# Altium integrated library Capacitor - Aluminium TH.IntLib: 4591 symbols (part 12 of 68)
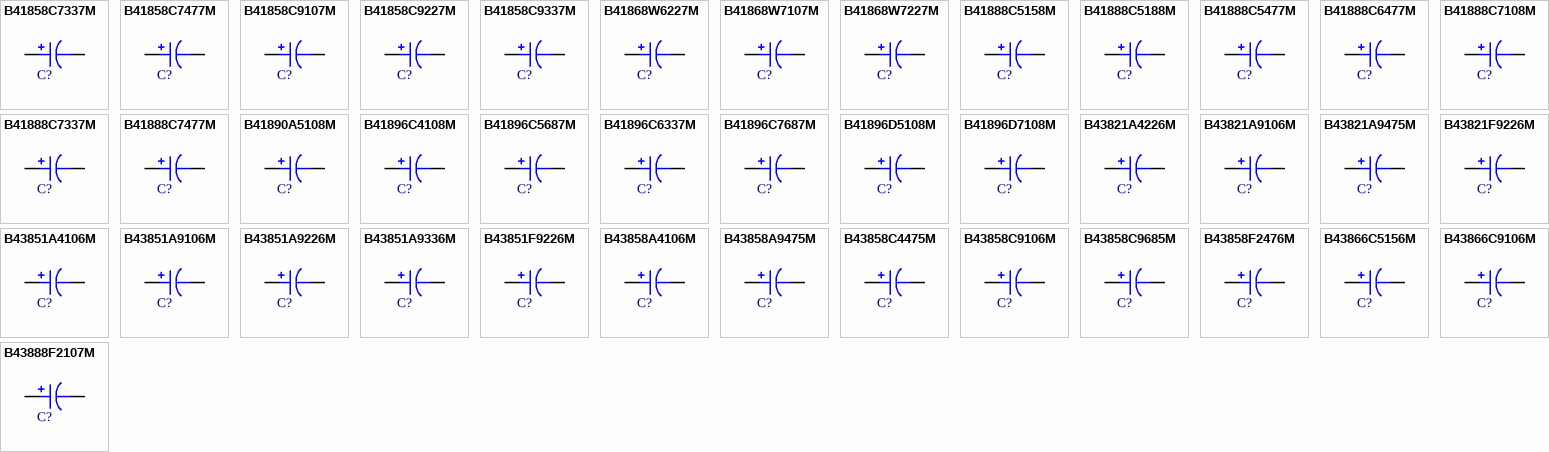
[diagram p125: symbols B41858C7337M to B43888F2107M]

## B43858C9106M
designator C?, comment 10uF  (value not drawn)
CAP ALUM 10UF 20% 400V RADIAL; Part Number: B43858C9106M; Manufacturer: EPCOS (TDK); TemperatureRange: -25C ~ 105C; Type: Polar; Ripple Current: 300mA @ 100kHz; Value: 10uF; PartId: 25988; Supplier 1: Digi-Key; Supplier Part Number 1: 495-6033-ND; ComponentLink1Description: Datasheet; ComponentLink1URL: //media.digikey.com/pdf/Data%20Sheets/Epcos%20PDFs/B43858_Nov08.pdf; ComponentLink2Description: Digi-Key Listing; ComponentLink2URL: https://www.digikey.com/product-detail/en/epcos-tdk/B43858C9106M/495-6033-ND/3544046; Tolerance: 20%; Voltage: 400V; Price: 1; Device Package: Radial, Can, 10mm
footprint CAP AL TH D10 L5 H22
pins: 1, 2

## B43858C9685M
designator C?, comment 6.8uF  (value not drawn)
CAP ALUM 6.8UF 20% 400V RADIAL; Part Number: B43858C9685M; Manufacturer: EPCOS (TDK); TemperatureRange: -25C ~ 105C; Type: Polar; Ripple Current: 270mA @ 100kHz; Value: 6.8uF; PartId: 25409; Supplier 1: Digi-Key; Supplier Part Number 1: 495-6016-ND; ComponentLink1Description: Datasheet; ComponentLink1URL: //media.digikey.com/pdf/Data%20Sheets/Epcos%20PDFs/B43858_Nov08.pdf; ComponentLink2Description: Digi-Key Listing; ComponentLink2URL: https://www.digikey.com/product-detail/en/epcos-tdk/B43858C9685M/495-6016-ND/3543752; Tolerance: 20%; Voltage: 400V; Price: 0.83; Device Package: Radial, Can, 10mm
footprint CAP AL TH D10 L5 H17.5
pins: 1, 2

## B43858F2476M
designator C?, comment 47uF  (value not drawn)
CAP ALUM 47UF 20% 250V RADIAL; Part Number: B43858F2476M; Manufacturer: EPCOS (TDK); TemperatureRange: -40C ~ 105C; Type: Polar; Ripple Current: 840mA @ 100kHz; Value: 47uF; PartId: 26943; Supplier 1: Digi-Key; Supplier Part Number 1: 495-6071-ND; ComponentLink1Description: Datasheet; ComponentLink1URL: //media.digikey.com/pdf/Data%20Sheets/Epcos%20PDFs/B43858_Oct_2002.pdf; ComponentLink2Description: Digi-Key Listing; ComponentLink2URL: https://www.digikey.com/product-detail/en/epcos-tdk/B43858F2476M/495-6071-ND/3544507; Tolerance: 20%; Voltage: 250V; Price: 1.93; Device Package: Radial, Can, 16mm
footprint CAP AL TH D16 L7.5 H27
pins: 1, 2

## B43866C5156M
designator C?, comment 15uF  (value not drawn)
CAP ALUM 15UF 20% 450V RADIAL; Part Number: B43866C5156M; Manufacturer: EPCOS (TDK); TemperatureRange: -25C ~ 125C; Type: Polar; Ripple Current: 250mA @ 100kHz; Value: 15uF; PartId: 24141; Supplier 1: Digi-Key; Supplier Part Number 1: 495-6072-ND; ComponentLink1Description: Datasheet; ComponentLink1URL: //media.digikey.com/pdf/Data%20Sheets/Epcos%20PDFs/B43866_Series_2010.pdf; ComponentLink2Description: Digi-Key Listing; ComponentLink2URL: https://www.digikey.com/product-detail/en/epcos-tdk/B43866C5156M/495-6072-ND/3500152; Tolerance: 20%; Voltage: 450V; Price: 1.48; Device Package: Radial, Can, 12.5mm
footprint CAP AL TH D12.5 L5 H27
pins: 1, 2

## B43866C9106M
designator C?, comment 10uF  (value not drawn)
CAP ALUM 10UF 20% 400V RADIAL; Part Number: B43866C9106M; Manufacturer: EPCOS (TDK); TemperatureRange: -25C ~ 125C; Type: Polar; Ripple Current: 160mA @ 100kHz; Value: 10uF; PartId: 25987; Supplier 1: Digi-Key; Supplier Part Number 1: 495-6034-ND; ComponentLink1Description: Datasheet; ComponentLink1URL: //media.digikey.com/pdf/Data%20Sheets/Epcos%20PDFs/B43866_Series_2010.pdf; ComponentLink2Description: Digi-Key Listing; ComponentLink2URL: https://www.digikey.com/product-detail/en/epcos-tdk/B43866C9106M/495-6034-ND/3500158; Tolerance: 20%; Voltage: 400V; Price: 0.99; Device Package: Radial, Can, 10mm
footprint CAP AL TH D10 L5 H22
pins: 1, 2

## B43888F2107M
designator C?, comment 100uF  (value not drawn)
CAP ALUM 100UF 20% 250V RADIAL; Part Number: B43888F2107M; Manufacturer: EPCOS (TDK); Type: Polar; Ripple Current: 1.18A @ 100kHz; Value: 100uF; PartId: 27273; Supplier 1: Digi-Key; Supplier Part Number 1: 495-6080-ND; ComponentLink1Description: Datasheet; ComponentLink1URL: //media.digikey.com/pdf/Data%20Sheets/Epcos%20PDFs/B43888_Series.pdf; ComponentLink2Description: Digi-Key Listing; ComponentLink2URL: https://www.digikey.com/product-detail/en/epcos-tdk/B43888F2107M/495-6080-ND/3544680; Tolerance: 20%; Voltage: 250V; Price: 3.05; Device Package: Radial, Can, 16mm
footprint CAP AL TH D16 L7.5 H33.5
pins: 1, 2

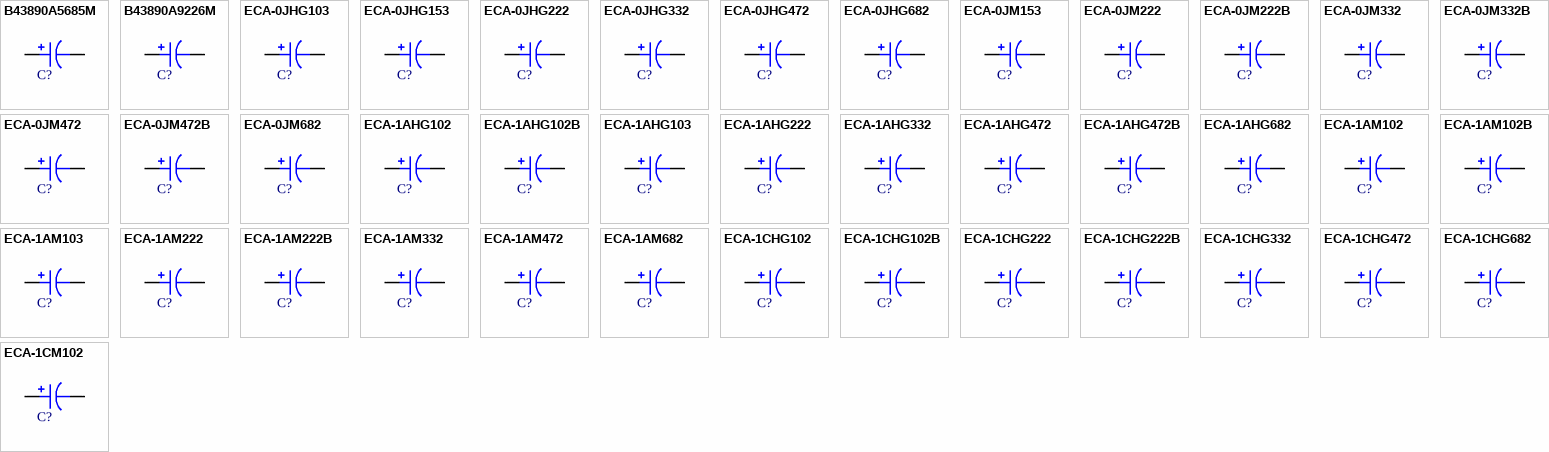
[diagram p19: symbols B43890A5685M to ECA-1CM102]

## B43890A5685M
designator C?, comment 6.8uF  (value not drawn)
CAP ALUM 6.8UF 20% 450V RADIAL; Part Number: B43890A5685M; Manufacturer: EPCOS (TDK); TemperatureRange: -25C ~ 105C; Type: Polar; Ripple Current: 262mA @ 100kHz; Value: 6.8uF; PartId: 25967; Supplier 1: Digi-Key; Supplier Part Number 1: 495-6035-ND; ComponentLink1Description: Datasheet; ComponentLink1URL: https://en.tdk.eu/inf/20/30/db/aec/B43890.pdf; ComponentLink2Description: Digi-Key Listing; ComponentLink2URL: https://www.digikey.com/product-detail/en/epcos-tdk/B43890A5685M/495-6035-ND/3500178; Tolerance: 20%; Voltage: 450V; Price: 0.85; Device Package: Radial, Can, 10mm
footprint CAP AL TH D10 L5 H22
pins: 1, 2

## B43890A9226M
designator C?, comment 22uF  (value not drawn)
CAP ALUM 22UF 20% 400V RADIAL; Part Number: B43890A9226M; Manufacturer: EPCOS (TDK); TemperatureRange: -25C ~ 105C; Type: Polar; Ripple Current: 590mA @ 100kHz; Value: 22uF; PartId: 24084; Supplier 1: Digi-Key; Supplier Part Number 1: 495-6073-ND; ComponentLink1Description: Datasheet; ComponentLink1URL: https://en.tdk.eu/inf/20/30/db/aec/B43890.pdf; ComponentLink2Description: Digi-Key Listing; ComponentLink2URL: https://www.digikey.com/product-detail/en/epcos-tdk/B43890A9226M/495-6073-ND/3500182; Tolerance: 20%; Voltage: 400V; Price: 1.23; Device Package: Radial, Can, 12.5mm
footprint CAP AL TH D12.5 L5 H27
pins: 1, 2

## ECA-0JHG103
designator C?, comment 10000uF  (value not drawn)
CAP ALUM 10000UF 20% 6.3V RADIAL; Part Number: ECA-0JHG103; Manufacturer: Panasonic Electronic Components; TemperatureRange: -55C ~ 105C; Type: Polar; Ripple Current: 1.65A @ 120Hz; Value: 10000uF; PartId: 26881; Supplier 1: Digi-Key; Supplier Part Number 1: P5514-ND; ComponentLink1Description: Datasheet; ComponentLink1URL: https://industrial.panasonic.com/cdbs/www-data/pdf/RDF0000/ABA0000C1038.pdf; ComponentLink2Description: Digi-Key Listing; ComponentLink2URL: https://www.digikey.com/product-detail/en/panasonic-electronic-components/ECA-0JHG103/P5514-ND/245113; Tolerance: 20%; Voltage: 6.3V; Price: 1.31; Device Package: Radial, Can, 16mm
footprint CAP AL TH D16 L7.5 H27
pins: 1, 2

## ECA-0JHG153
designator C?, comment 15000uF  (value not drawn)
CAP ALUM 15000UF 20% 6.3V RADIAL; Part Number: ECA-0JHG153; Manufacturer: Panasonic Electronic Components; TemperatureRange: -55C ~ 105C; Type: Polar; Ripple Current: 2.01A @ 120Hz; Value: 15000uF; PartId: 27113; Supplier 1: Digi-Key; Supplier Part Number 1: P5515-ND; ComponentLink1Description: Datasheet; ComponentLink1URL: https://industrial.panasonic.com/cdbs/www-data/pdf/RDF0000/ABA0000C1038.pdf; ComponentLink2Description: Digi-Key Listing; ComponentLink2URL: https://www.digikey.com/product-detail/en/panasonic-electronic-components/ECA-0JHG153/P5515-ND/245114; Tolerance: 20%; Voltage: 6.3V; Price: 1.75; Device Package: Radial, Can, 16mm
footprint CAP AL TH D16 L7.5 H33.5
pins: 1, 2

## ECA-0JHG222
designator C?, comment 2200uF  (value not drawn)
CAP ALUM 2200UF 20% 6.3V RADIAL; Part Number: ECA-0JHG222; Manufacturer: Panasonic Electronic Components; TemperatureRange: -55C ~ 105C; Type: Polar; Ripple Current: 710mA @ 120Hz; Value: 2200uF; PartId: 25259; Supplier 1: Digi-Key; Supplier Part Number 1: P5510-ND; ComponentLink1Description: Datasheet; ComponentLink1URL: https://industrial.panasonic.com/cdbs/www-data/pdf/RDF0000/ABA0000C1038.pdf; ComponentLink2Description: Digi-Key Listing; ComponentLink2URL: https://www.digikey.com/product-detail/en/panasonic-electronic-components/ECA-0JHG222/P5510-ND/245109; Tolerance: 20%; Voltage: 6.3V; Price: 0.59; Device Package: Radial, Can, 10mm
footprint CAP AL TH D10 L5 H17.5
pins: 1, 2

## ECA-0JHG332
designator C?, comment 3300uF  (value not drawn)
CAP ALUM 3300UF 20% 6.3V RADIAL; Part Number: ECA-0JHG332; Manufacturer: Panasonic Electronic Components; TemperatureRange: -55C ~ 105C; Type: Polar; Ripple Current: 840mA @ 120Hz; Value: 3300uF; PartId: 25875; Supplier 1: Digi-Key; Supplier Part Number 1: P5511-ND; ComponentLink1Description: Datasheet; ComponentLink1URL: https://industrial.panasonic.com/cdbs/www-data/pdf/RDF0000/ABA0000C1038.pdf; ComponentLink2Description: Digi-Key Listing; ComponentLink2URL: https://www.digikey.com/product-detail/en/panasonic-electronic-components/ECA-0JHG332/P5511-ND/245110; Tolerance: 20%; Voltage: 6.3V; Price: 0.64; Device Package: Radial, Can, 10mm
footprint CAP AL TH D10 L5 H22
pins: 1, 2

## ECA-0JHG472
designator C?, comment 4700uF  (value not drawn)
CAP ALUM 4700UF 20% 6.3V RADIAL; Part Number: ECA-0JHG472; Manufacturer: Panasonic Electronic Components; TemperatureRange: -55C ~ 105C; Type: Polar; Ripple Current: 1.09A @ 120Hz; Value: 4700uF; PartId: 23293; Supplier 1: Digi-Key; Supplier Part Number 1: P5512-ND; ComponentLink1Description: Datasheet; ComponentLink1URL: https://industrial.panasonic.com/cdbs/www-data/pdf/RDF0000/ABA0000C1038.pdf; ComponentLink2Description: Digi-Key Listing; ComponentLink2URL: https://www.digikey.com/product-detail/en/panasonic-electronic-components/ECA-0JHG472/P5512-ND/245111; Tolerance: 20%; Voltage: 6.3V; Price: 0.8; Device Package: Radial, Can, 12.5mm
footprint CAP AL TH D12.5 L5 H22
pins: 1, 2

## ECA-0JHG682
designator C?, comment 6800uF  (value not drawn)
CAP ALUM 6800UF 20% 6.3V RADIAL; Part Number: ECA-0JHG682; Manufacturer: Panasonic Electronic Components; TemperatureRange: -55C ~ 105C; Type: Polar; Ripple Current: 1.35A @ 120Hz; Value: 6800uF; PartId: 23972; Supplier 1: Digi-Key; Supplier Part Number 1: P5513-ND; ComponentLink1Description: Datasheet; ComponentLink1URL: https://industrial.panasonic.com/cdbs/www-data/pdf/RDF0000/ABA0000C1038.pdf; ComponentLink2Description: Digi-Key Listing; ComponentLink2URL: https://www.digikey.com/product-detail/en/panasonic-electronic-components/ECA-0JHG682/P5513-ND/245112; Tolerance: 20%; Voltage: 6.3V; Price: 1.01; Device Package: Radial, Can, 12.5mm
footprint CAP AL TH D12.5 L5 H27
pins: 1, 2

## ECA-0JM153
designator C?, comment 15000uF  (value not drawn)
CAP ALUM 15000UF 20% 6.3V RADIAL; Part Number: ECA-0JM153; Manufacturer: Panasonic Electronic Components; TemperatureRange: -40C ~ 85C; Type: Polar; Ripple Current: 1.7A @ 120Hz; Value: 15000uF; PartId: 26996; Supplier 1: Digi-Key; Supplier Part Number 1: P5121-ND; ComponentLink1Description: Datasheet; ComponentLink1URL: https://industrial.panasonic.com/cdbs/www-data/pdf/RDF0000/ABA0000C81.pdf; ComponentLink2Description: Digi-Key Listing; ComponentLink2URL: https://www.digikey.com/product-detail/en/panasonic-electronic-components/ECA-0JM153/P5121-ND/244980; Tolerance: 20%; Voltage: 6.3V; Price: 1.31; Device Package: Radial, Can, 16mm
footprint CAP AL TH D16 L7.5 H33.5
pins: 1, 2

## ECA-0JM222
designator C?, comment 2200uF  (value not drawn)
CAP ALUM 2200UF 20% 6.3V RADIAL; Part Number: ECA-0JM222; Manufacturer: Panasonic Electronic Components; TemperatureRange: -40C ~ 85C; Type: Polar; Ripple Current: 890mA @ 120Hz; Value: 2200uF; PartId: 25193; Supplier 1: Digi-Key; Supplier Part Number 1: P5116-ND; ComponentLink1Description: Datasheet; ComponentLink1URL: https://industrial.panasonic.com/cdbs/www-data/pdf/RDF0000/ABA0000C81.pdf; ComponentLink2Description: Digi-Key Listing; ComponentLink2URL: https://www.digikey.com/product-detail/en/panasonic-electronic-components/ECA-0JM222/P5116-ND/244975; Tolerance: 20%; Voltage: 6.3V; Price: 0.49; Device Package: Radial, Can, 10mm
footprint CAP AL TH D10 L5 H17.5
pins: 1, 2

## ECA-0JM222B
designator C?, comment 2200uF  (value not drawn)
CAP ALUM 2200UF 20% 6.3V RADIAL; Part Number: ECA-0JM222B; Manufacturer: Panasonic Electronic Components; TemperatureRange: -40C ~ 85C; Type: Polar; Ripple Current: 890mA @ 120Hz; Value: 2200uF; PartId: 24999; Supplier 1: Digi-Key; Supplier Part Number 1: P10360TB-ND; ComponentLink1Description: Datasheet; ComponentLink1URL: https://industrial.panasonic.com/cdbs/www-data/pdf/RDF0000/ABA0000C81.pdf; ComponentLink2Description: Digi-Key Listing; ComponentLink2URL: https://www.digikey.com/product-detail/en/panasonic-electronic-components/ECA-0JM222B/P10360TB-ND/268445; Tolerance: 20%; Voltage: 6.3V; Price: 0.1468; Device Package: Radial, Can, 10mm
footprint CAP AL TH D10 L5 H17.5
pins: 1, 2

## ECA-0JM332
designator C?, comment 3300uF  (value not drawn)
CAP ALUM 3300UF 20% 6.3V RADIAL; Part Number: ECA-0JM332; Manufacturer: Panasonic Electronic Components; TemperatureRange: -40C ~ 85C; Type: Polar; Ripple Current: 1.02A @ 120Hz; Value: 3300uF; PartId: 25852; Supplier 1: Digi-Key; Supplier Part Number 1: P5117-ND; ComponentLink1Description: Datasheet; ComponentLink1URL: https://industrial.panasonic.com/cdbs/www-data/pdf/RDF0000/ABA0000C81.pdf; ComponentLink2Description: Digi-Key Listing; ComponentLink2URL: https://www.digikey.com/product-detail/en/panasonic-electronic-components/ECA-0JM332/P5117-ND/244976; Tolerance: 20%; Voltage: 6.3V; Price: 0.55; Device Package: Radial, Can, 10mm
footprint CAP AL TH D10 L5 H22
pins: 1, 2

## ECA-0JM332B
designator C?, comment 3300uF  (value not drawn)
CAP ALUM 3300UF 20% 6.3V RADIAL; Part Number: ECA-0JM332B; Manufacturer: Panasonic Electronic Components; TemperatureRange: -40C ~ 85C; Type: Polar; Ripple Current: 1.02A @ 120Hz; Value: 3300uF; PartId: 25750; Supplier 1: Digi-Key; Supplier Part Number 1: P10361TB-ND; ComponentLink1Description: Datasheet; ComponentLink1URL: https://industrial.panasonic.com/cdbs/www-data/pdf/RDF0000/ABA0000C81.pdf; ComponentLink2Description: Digi-Key Listing; ComponentLink2URL: https://www.digikey.com/product-detail/en/panasonic-electronic-components/ECA-0JM332B/P10361TB-ND/268446; Tolerance: 20%; Voltage: 6.3V; Price: 0.2014; Device Package: Radial, Can, 10mm
footprint CAP AL TH D10 L5 H22
pins: 1, 2

## ECA-0JM472
designator C?, comment 4700uF  (value not drawn)
CAP ALUM 4700UF 20% 6.3V RADIAL; Part Number: ECA-0JM472; Manufacturer: Panasonic Electronic Components; TemperatureRange: -40C ~ 85C; Type: Polar; Ripple Current: 1.17A @ 120Hz; Value: 4700uF; PartId: 23236; Supplier 1: Digi-Key; Supplier Part Number 1: P5118-ND; ComponentLink1Description: Datasheet; ComponentLink1URL: https://industrial.panasonic.com/cdbs/www-data/pdf/RDF0000/ABA0000C81.pdf; ComponentLink2Description: Digi-Key Listing; ComponentLink2URL: https://www.digikey.com/product-detail/en/panasonic-electronic-components/ECA-0JM472/P5118-ND/244977; Tolerance: 20%; Voltage: 6.3V; Price: 0.68; Device Package: Radial, Can, 12.5mm
footprint CAP AL TH D12.5 L5 H22
pins: 1, 2

## ECA-0JM472B
designator C?, comment 4700uF  (value not drawn)
CAP ALUM 4700UF 20% 6.3V RADIAL; Part Number: ECA-0JM472B; Manufacturer: Panasonic Electronic Components; TemperatureRange: -40C ~ 85C; Type: Polar; Ripple Current: 1.17A @ 120Hz; Value: 4700uF; PartId: 23142; Supplier 1: Digi-Key; Supplier Part Number 1: P10362TB-ND; ComponentLink1Description: Datasheet; ComponentLink1URL: https://industrial.panasonic.com/cdbs/www-data/pdf/RDF0000/ABA0000C81.pdf; ComponentLink2Description: Digi-Key Listing; ComponentLink2URL: https://www.digikey.com/product-detail/en/panasonic-electronic-components/ECA-0JM472B/P10362TB-ND/268447; Tolerance: 20%; Voltage: 6.3V; Price: 0.2734; Device Package: Radial, Can, 12.5mm
footprint CAP AL TH D12.5 L5 H22
pins: 1, 2

## ECA-0JM682
designator C?, comment 6800uF  (value not drawn)
CAP ALUM 6800UF 20% 6.3V RADIAL; Part Number: ECA-0JM682; Manufacturer: Panasonic Electronic Components; TemperatureRange: -40C ~ 85C; Type: Polar; Ripple Current: 1.27A @ 120Hz; Value: 6800uF; PartId: 23879; Supplier 1: Digi-Key; Supplier Part Number 1: P5119-ND; ComponentLink1Description: Datasheet; ComponentLink1URL: https://industrial.panasonic.com/cdbs/www-data/pdf/RDF0000/ABA0000C81.pdf; ComponentLink2Description: Digi-Key Listing; ComponentLink2URL: https://www.digikey.com/product-detail/en/panasonic-electronic-components/ECA-0JM682/P5119-ND/244978; Tolerance: 20%; Voltage: 6.3V; Price: 0.83; Device Package: Radial, Can, 12.5mm
footprint CAP AL TH D12.5 L5 H27
pins: 1, 2

## ECA-1AHG102
designator C?, comment 1000uF  (value not drawn)
CAP ALUM 1000UF 20% 10V RADIAL; Part Number: ECA-1AHG102; Manufacturer: Panasonic Electronic Components; TemperatureRange: -55C ~ 105C; Type: Polar; Ripple Current: 460mA @ 120Hz; Value: 1000uF; PartId: 24848; Supplier 1: Digi-Key; Supplier Part Number 1: P5521-ND; ComponentLink1Description: Datasheet; ComponentLink1URL: https://industrial.panasonic.com/cdbs/www-data/pdf/RDF0000/ABA0000C1038.pdf; ComponentLink2Description: Digi-Key Listing; ComponentLink2URL: https://www.digikey.com/product-detail/en/panasonic-electronic-components/ECA-1AHG102/P5521-ND/245120; Tolerance: 20%; Voltage: 10V; Price: 0.47; Device Package: Radial, Can, 10mm
footprint CAP AL TH D10 L5 H14.5
pins: 1, 2

## ECA-1AHG102B
designator C?, comment 1000uF  (value not drawn)
CAP ALUM 1000UF 20% 10V RADIAL; Part Number: ECA-1AHG102B; Manufacturer: Panasonic Electronic Components; TemperatureRange: -55C ~ 105C; Type: Polar; Ripple Current: 460mA @ 120Hz; Value: 1000uF; PartId: 24592; Supplier 1: Digi-Key; Supplier Part Number 1: P19509TB-ND; ComponentLink1Description: Datasheet; ComponentLink1URL: https://industrial.panasonic.com/cdbs/www-data/pdf/RDF0000/ABA0000C1038.pdf; ComponentLink2Description: Digi-Key Listing; ComponentLink2URL: https://www.digikey.com/product-detail/en/panasonic-electronic-components/ECA-1AHG102B/P19509TB-ND/2688625; Tolerance: 20%; Voltage: 10V; Price: 0.1728; Device Package: Radial, Can, 10mm
footprint CAP AL TH D10 L5 H14.5
pins: 1, 2

## ECA-1AHG103
designator C?, comment 10000uF  (value not drawn)
CAP ALUM 10000UF 20% 10V RADIAL; Part Number: ECA-1AHG103; Manufacturer: Panasonic Electronic Components; TemperatureRange: -55C ~ 105C; Type: Polar; Ripple Current: 1.89A @ 120Hz; Value: 10000uF; PartId: 27115; Supplier 1: Digi-Key; Supplier Part Number 1: P5526-ND; ComponentLink1Description: Datasheet; ComponentLink1URL: https://industrial.panasonic.com/cdbs/www-data/pdf/RDF0000/ABA0000C1038.pdf; ComponentLink2Description: Digi-Key Listing; ComponentLink2URL: https://www.digikey.com/product-detail/en/panasonic-electronic-components/ECA-1AHG103/P5526-ND/245125; Tolerance: 20%; Voltage: 10V; Price: 1.75; Device Package: Radial, Can, 16mm
footprint CAP AL TH D16 L7.5 H33.5
pins: 1, 2

## ECA-1AHG222
designator C?, comment 2200uF  (value not drawn)
CAP ALUM 2200UF 20% 10V RADIAL; Part Number: ECA-1AHG222; Manufacturer: Panasonic Electronic Components; TemperatureRange: -55C ~ 105C; Type: Polar; Ripple Current: 760mA @ 120Hz; Value: 2200uF; PartId: 25885; Supplier 1: Digi-Key; Supplier Part Number 1: P5522-ND; ComponentLink1Description: Datasheet; ComponentLink1URL: https://industrial.panasonic.com/cdbs/www-data/pdf/RDF0000/ABA0000C1038.pdf; ComponentLink2Description: Digi-Key Listing; ComponentLink2URL: https://www.digikey.com/product-detail/en/panasonic-electronic-components/ECA-1AHG222/P5522-ND/245121; Tolerance: 20%; Voltage: 10V; Price: 0.65; Device Package: Radial, Can, 10mm
footprint CAP AL TH D10 L5 H22
pins: 1, 2

## ECA-1AHG332
designator C?, comment 3300uF  (value not drawn)
CAP ALUM 3300UF 20% 10V RADIAL; Part Number: ECA-1AHG332; Manufacturer: Panasonic Electronic Components; TemperatureRange: -55C ~ 105C; Type: Polar; Ripple Current: 1A @ 120Hz; Value: 3300uF; PartId: 23330; Supplier 1: Digi-Key; Supplier Part Number 1: P5523-ND; ComponentLink1Description: Datasheet; ComponentLink1URL: https://industrial.panasonic.com/cdbs/www-data/pdf/RDF0000/ABA0000C1038.pdf; ComponentLink2Description: Digi-Key Listing; ComponentLink2URL: https://www.digikey.com/product-detail/en/panasonic-electronic-components/ECA-1AHG332/P5523-ND/245122; Tolerance: 20%; Voltage: 10V; Price: 0.83; Device Package: Radial, Can, 12.5mm
footprint CAP AL TH D12.5 L5 H22
pins: 1, 2

## ECA-1AHG472
designator C?, comment 4700uF  (value not drawn)
CAP ALUM 4700UF 20% 10V RADIAL; Part Number: ECA-1AHG472; Manufacturer: Panasonic Electronic Components; TemperatureRange: -55C ~ 105C; Type: Polar; Ripple Current: 1.26A @ 120Hz; Value: 4700uF; PartId: 23966; Supplier 1: Digi-Key; Supplier Part Number 1: P5524-ND; ComponentLink1Description: Datasheet; ComponentLink1URL: https://industrial.panasonic.com/cdbs/www-data/pdf/RDF0000/ABA0000C1038.pdf; ComponentLink2Description: Digi-Key Listing; ComponentLink2URL: https://www.digikey.com/product-detail/en/panasonic-electronic-components/ECA-1AHG472/P5524-ND/245123; Tolerance: 20%; Voltage: 10V; Price: 1; Device Package: Radial, Can, 12.5mm
footprint CAP AL TH D12.5 L5 H27
pins: 1, 2

## ECA-1AHG472B
designator C?, comment 4700uF  (value not drawn)
CAP ALUM 4700UF 20% 10V RADIAL; Part Number: ECA-1AHG472B; Manufacturer: Panasonic Electronic Components; TemperatureRange: -55C ~ 105C; Type: Polar; Ripple Current: 1.26A @ 120Hz; Value: 4700uF; PartId: 23817; Supplier 1: Digi-Key; Supplier Part Number 1: P19510TB-ND; ComponentLink1Description: Datasheet; ComponentLink1URL: https://industrial.panasonic.com/cdbs/www-data/pdf/RDF0000/ABA0000C1038.pdf; ComponentLink2Description: Digi-Key Listing; ComponentLink2URL: https://www.digikey.com/product-detail/en/panasonic-electronic-components/ECA-1AHG472B/P19510TB-ND/2688635; Tolerance: 20%; Voltage: 10V; Price: 0.4279; Device Package: Radial, Can, 12.5mm
footprint CAP AL TH D12.5 L5 H27
pins: 1, 2

## ECA-1AHG682
designator C?, comment 6800uF  (value not drawn)
CAP ALUM 6800UF 20% 10V RADIAL; Part Number: ECA-1AHG682; Manufacturer: Panasonic Electronic Components; TemperatureRange: -55C ~ 105C; Type: Polar; Ripple Current: 1.57A @ 120Hz; Value: 6800uF; PartId: 26885; Supplier 1: Digi-Key; Supplier Part Number 1: P5525-ND; ComponentLink1Description: Datasheet; ComponentLink1URL: https://industrial.panasonic.com/cdbs/www-data/pdf/RDF0000/ABA0000C1038.pdf; ComponentLink2Description: Digi-Key Listing; ComponentLink2URL: https://www.digikey.com/product-detail/en/panasonic-electronic-components/ECA-1AHG682/P5525-ND/245124; Tolerance: 20%; Voltage: 10V; Price: 1.31; Device Package: Radial, Can, 16mm
footprint CAP AL TH D16 L7.5 H27
pins: 1, 2

## ECA-1AM102
designator C?, comment 1000uF  (value not drawn)
CAP ALUM 1000UF 20% 10V RADIAL; Part Number: ECA-1AM102; Manufacturer: Panasonic Electronic Components; TemperatureRange: -40C ~ 85C; Type: Polar; Ripple Current: 630mA @ 120Hz; Value: 1000uF; PartId: 24701; Supplier 1: Digi-Key; Supplier Part Number 1: P5127-ND; ComponentLink1Description: Datasheet; ComponentLink1URL: http://industrial.panasonic.com/www-cgi/jvcr13pz.cgi?E+PZ+3+ABA0012+ECA1AM102+7+WW; ComponentLink2Description: Digi-Key Listing; ComponentLink2URL: https://www.digikey.com/product-detail/en/panasonic-electronic-components/ECA-1AM102/P5127-ND/244986; Tolerance: 20%; Voltage: 10V; Price: 0.38; Device Package: Radial, Can, 10mm
footprint CAP AL TH D10 L5 H14.5
pins: 1, 2

## ECA-1AM102B
designator C?, comment 1000uF  (value not drawn)
CAP ALUM 1000UF 20% 10V RADIAL; Part Number: ECA-1AM102B; Manufacturer: Panasonic Electronic Components; TemperatureRange: -40C ~ 85C; Type: Polar; Ripple Current: 630mA @ 120Hz; Value: 1000uF; PartId: 24510; Supplier 1: Digi-Key; Supplier Part Number 1: P10367TB-ND; ComponentLink1Description: Datasheet; ComponentLink1URL: http://industrial.panasonic.com/www-cgi/jvcr13pz.cgi?E+PZ+3+ABA0012+ECA1AM102B+7+WW; ComponentLink2Description: Digi-Key Listing; ComponentLink2URL: https://www.digikey.com/product-detail/en/panasonic-electronic-components/ECA-1AM102B/P10367TB-ND/268452; Tolerance: 20%; Voltage: 10V; Price: 0.1262; Device Package: Radial, Can, 10mm
footprint CAP AL TH D10 L5 H14.5
pins: 1, 2

## ECA-1AM103
designator C?, comment 10000uF  (value not drawn)
CAP ALUM 10000UF 20% 10V RADIAL; Part Number: ECA-1AM103; Manufacturer: Panasonic Electronic Components; TemperatureRange: -40C ~ 85C; Type: Polar; Ripple Current: 1.6A @ 120Hz; Value: 10000uF; PartId: 26997; Supplier 1: Digi-Key; Supplier Part Number 1: P5132-ND; ComponentLink1Description: Datasheet; ComponentLink1URL: http://industrial.panasonic.com/www-cgi/jvcr13pz.cgi?E+PZ+3+ABA0012+ECA1AM103+7+WW; ComponentLink2Description: Digi-Key Listing; ComponentLink2URL: https://www.digikey.com/product-detail/en/panasonic-electronic-components/ECA-1AM103/P5132-ND/244991; Tolerance: 20%; Voltage: 10V; Price: 1.31; Device Package: Radial, Can, 16mm
footprint CAP AL TH D16 L7.5 H33.5
pins: 1, 2

## ECA-1AM222
designator C?, comment 2200uF  (value not drawn)
CAP ALUM 2200UF 20% 10V RADIAL; Part Number: ECA-1AM222; Manufacturer: Panasonic Electronic Components; TemperatureRange: -40C ~ 85C; Type: Polar; Ripple Current: 920mA @ 120Hz; Value: 2200uF; PartId: 25848; Supplier 1: Digi-Key; Supplier Part Number 1: P5128-ND; ComponentLink1Description: Datasheet; ComponentLink1URL: http://industrial.panasonic.com/www-cgi/jvcr13pz.cgi?E+PZ+3+ABA0012+ECA1AM222+7+WW; ComponentLink2Description: Digi-Key Listing; ComponentLink2URL: https://www.digikey.com/product-detail/en/panasonic-electronic-components/ECA-1AM222/P5128-ND/244987; Tolerance: 20%; Voltage: 10V; Price: 0.54; Device Package: Radial, Can, 10mm
footprint CAP AL TH D10 L5 H22
pins: 1, 2

## ECA-1AM222B
designator C?, comment 2200uF  (value not drawn)
CAP ALUM 2200UF 20% 10V RADIAL; Part Number: ECA-1AM222B; Manufacturer: Panasonic Electronic Components; TemperatureRange: -40C ~ 85C; Type: Polar; Ripple Current: 920mA @ 120Hz; Value: 2200uF; PartId: 25751; Supplier 1: Digi-Key; Supplier Part Number 1: P10368TB-ND; ComponentLink1Description: Datasheet; ComponentLink1URL: http://industrial.panasonic.com/www-cgi/jvcr13pz.cgi?E+PZ+3+ABA0012+ECA1AM222B+7+WW; ComponentLink2Description: Digi-Key Listing; ComponentLink2URL: https://www.digikey.com/product-detail/en/panasonic-electronic-components/ECA-1AM222B/P10368TB-ND/268453; Tolerance: 20%; Voltage: 10V; Price: 0.2014; Device Package: Radial, Can, 10mm
footprint CAP AL TH D10 L5 H22
pins: 1, 2

## ECA-1AM332
designator C?, comment 3300uF  (value not drawn)
CAP ALUM 3300UF 20% 10V RADIAL; Part Number: ECA-1AM332; Manufacturer: Panasonic Electronic Components; TemperatureRange: -40C ~ 85C; Type: Polar; Ripple Current: 1.09A @ 120Hz; Value: 3300uF; PartId: 23237; Supplier 1: Digi-Key; Supplier Part Number 1: P5129-ND; ComponentLink1Description: Datasheet; ComponentLink1URL: http://industrial.panasonic.com/www-cgi/jvcr13pz.cgi?E+PZ+3+ABA0012+ECA1AM332+7+WW; ComponentLink2Description: Digi-Key Listing; ComponentLink2URL: https://www.digikey.com/product-detail/en/panasonic-electronic-components/ECA-1AM332/P5129-ND/244988; Tolerance: 20%; Voltage: 10V; Price: 0.68; Device Package: Radial, Can, 12.5mm
footprint CAP AL TH D12.5 L5 H22
pins: 1, 2

## ECA-1AM472
designator C?, comment 4700uF  (value not drawn)
CAP ALUM 4700UF 20% 10V RADIAL; Part Number: ECA-1AM472; Manufacturer: Panasonic Electronic Components; TemperatureRange: -40C ~ 85C; Type: Polar; Ripple Current: 1.2A @ 120Hz; Value: 4700uF; PartId: 23886; Supplier 1: Digi-Key; Supplier Part Number 1: P5130-ND; ComponentLink1Description: Datasheet; ComponentLink1URL: http://industrial.panasonic.com/www-cgi/jvcr13pz.cgi?E+PZ+3+ABA0012+ECA1AM472+7+WW; ComponentLink2Description: Digi-Key Listing; ComponentLink2URL: https://www.digikey.com/product-detail/en/panasonic-electronic-components/ECA-1AM472/P5130-ND/244989; Tolerance: 20%; Voltage: 10V; Price: 0.85; Device Package: Radial, Can, 12.5mm
footprint CAP AL TH D12.5 L5 H27
pins: 1, 2

## ECA-1AM682
designator C?, comment 6800uF  (value not drawn)
CAP ALUM 6800UF 20% 10V RADIAL; Part Number: ECA-1AM682; Manufacturer: Panasonic Electronic Components; TemperatureRange: -40C ~ 85C; Type: Polar; Ripple Current: 1.4A @ 120Hz; Value: 6800uF; PartId: 26850; Supplier 1: Digi-Key; Supplier Part Number 1: P5131-ND; ComponentLink1Description: Datasheet; ComponentLink1URL: http://industrial.panasonic.com/www-cgi/jvcr13pz.cgi?E+PZ+3+ABA0012+ECA1AM682+7+WW; ComponentLink2Description: Digi-Key Listing; ComponentLink2URL: https://www.digikey.com/product-detail/en/panasonic-electronic-components/ECA-1AM682/P5131-ND/244990; Tolerance: 20%; Voltage: 10V; Price: 1.05; Device Package: Radial, Can, 16mm
footprint CAP AL TH D16 L7.5 H27
pins: 1, 2

## ECA-1CHG102
designator C?, comment 1000uF  (value not drawn)
CAP ALUM 1000UF 20% 16V RADIAL; Part Number: ECA-1CHG102; Manufacturer: Panasonic Electronic Components; TemperatureRange: -55C ~ 105C; Type: Polar; Ripple Current: 560mA @ 120Hz; Value: 1000uF; PartId: 25256; Supplier 1: Digi-Key; Supplier Part Number 1: P5533-ND; ComponentLink1Description: Datasheet; ComponentLink1URL: https://industrial.panasonic.com/cdbs/www-data/pdf/RDF0000/ABA0000C1038.pdf; ComponentLink2Description: Digi-Key Listing; ComponentLink2URL: https://www.digikey.com/product-detail/en/panasonic-electronic-components/ECA-1CHG102/P5533-ND/245132; Tolerance: 20%; Voltage: 16V; Price: 0.59; Device Package: Radial, Can, 10mm
footprint CAP AL TH D10 L5 H17.5
pins: 1, 2

## ECA-1CHG102B
designator C?, comment 1000uF  (value not drawn)
CAP ALUM 1000UF 20% 16V RADIAL; Part Number: ECA-1CHG102B; Manufacturer: Panasonic Electronic Components; TemperatureRange: -55C ~ 105C; Type: Polar; Ripple Current: 560mA @ 120Hz; Value: 1000uF; PartId: 25059; Supplier 1: Digi-Key; Supplier Part Number 1: P19511TB-ND; ComponentLink1Description: Datasheet; ComponentLink1URL: https://industrial.panasonic.com/cdbs/www-data/pdf/RDF0000/ABA0000C1038.pdf; ComponentLink2Description: Digi-Key Listing; ComponentLink2URL: https://www.digikey.com/product-detail/en/panasonic-electronic-components/ECA-1CHG102B/P19511TB-ND/1629498; Tolerance: 20%; Voltage: 16V; Price: 0.2186; Device Package: Radial, Can, 10mm
footprint CAP AL TH D10 L5 H17.5
pins: 1, 2

## ECA-1CHG222
designator C?, comment 2200uF  (value not drawn)
CAP ALUM 2200UF 20% 16V RADIAL; Part Number: ECA-1CHG222; Manufacturer: Panasonic Electronic Components; TemperatureRange: -55C ~ 105C; Type: Polar; Ripple Current: 920mA @ 120Hz; Value: 2200uF; PartId: 23329; Supplier 1: Digi-Key; Supplier Part Number 1: P5534-ND; ComponentLink1Description: Datasheet; ComponentLink1URL: https://industrial.panasonic.com/cdbs/www-data/pdf/RDF0000/ABA0000C1038.pdf; ComponentLink2Description: Digi-Key Listing; ComponentLink2URL: https://www.digikey.com/product-detail/en/panasonic-electronic-components/ECA-1CHG222/P5534-ND/245133; Tolerance: 20%; Voltage: 16V; Price: 0.83; Device Package: Radial, Can, 12.5mm
footprint CAP AL TH D12.5 L5 H22
pins: 1, 2

## ECA-1CHG222B
designator C?, comment 2200uF  (value not drawn)
CAP ALUM 2200UF 20% 16V RADIAL; Part Number: ECA-1CHG222B; Manufacturer: Panasonic Electronic Components; TemperatureRange: -55C ~ 105C; Type: Polar; Ripple Current: 920mA @ 120Hz; Value: 2200uF; PartId: 23164; Supplier 1: Digi-Key; Supplier Part Number 1: P19512TB-ND; ComponentLink1Description: Datasheet; ComponentLink1URL: https://industrial.panasonic.com/cdbs/www-data/pdf/RDF0000/ABA0000C1038.pdf; ComponentLink2Description: Digi-Key Listing; ComponentLink2URL: https://www.digikey.com/product-detail/en/panasonic-electronic-components/ECA-1CHG222B/P19512TB-ND/2688645; Tolerance: 20%; Voltage: 16V; Price: 0.3366; Device Package: Radial, Can, 12.5mm
footprint CAP AL TH D12.5 L5 H22
pins: 1, 2

## ECA-1CHG332
designator C?, comment 3300uF  (value not drawn)
CAP ALUM 3300UF 20% 16V RADIAL; Part Number: ECA-1CHG332; Manufacturer: Panasonic Electronic Components; TemperatureRange: -55C ~ 105C; Type: Polar; Ripple Current: 1.17A @ 120Hz; Value: 3300uF; PartId: 23933; Supplier 1: Digi-Key; Supplier Part Number 1: P5535-ND; ComponentLink1Description: Datasheet; ComponentLink1URL: https://industrial.panasonic.com/cdbs/www-data/pdf/RDF0000/ABA0000C1038.pdf; ComponentLink2Description: Digi-Key Listing; ComponentLink2URL: https://www.digikey.com/product-detail/en/panasonic-electronic-components/ECA-1CHG332/P5535-ND/245134; Tolerance: 20%; Voltage: 16V; Price: 0.97; Device Package: Radial, Can, 12.5mm
footprint CAP AL TH D12.5 L5 H27
pins: 1, 2

## ECA-1CHG472
designator C?, comment 4700uF  (value not drawn)
CAP ALUM 4700UF 20% 16V RADIAL; Part Number: ECA-1CHG472; Manufacturer: Panasonic Electronic Components; TemperatureRange: -55C ~ 105C; Type: Polar; Ripple Current: 1.48A @ 120Hz; Value: 4700uF; PartId: 26858; Supplier 1: Digi-Key; Supplier Part Number 1: P5536-ND; ComponentLink1Description: Datasheet; ComponentLink1URL: https://industrial.panasonic.com/cdbs/www-data/pdf/RDF0000/ABA0000C1038.pdf; ComponentLink2Description: Digi-Key Listing; ComponentLink2URL: https://www.digikey.com/product-detail/en/panasonic-electronic-components/ECA-1CHG472/P5536-ND/245135; Tolerance: 20%; Voltage: 16V; Price: 1.22; Device Package: Radial, Can, 16mm
footprint CAP AL TH D16 L7.5 H27
pins: 1, 2

## ECA-1CHG682
designator C?, comment 6800uF  (value not drawn)
CAP ALUM 6800UF 20% 16V RADIAL; Part Number: ECA-1CHG682; Manufacturer: Panasonic Electronic Components; TemperatureRange: -55C ~ 105C; Type: Polar; Ripple Current: 1.78A @ 120Hz; Value: 6800uF; PartId: 27112; Supplier 1: Digi-Key; Supplier Part Number 1: P5537-ND; ComponentLink1Description: Datasheet; ComponentLink1URL: https://industrial.panasonic.com/cdbs/www-data/pdf/RDF0000/ABA0000C1038.pdf; ComponentLink2Description: Digi-Key Listing; ComponentLink2URL: https://www.digikey.com/product-detail/en/panasonic-electronic-components/ECA-1CHG682/P5537-ND/245136; Tolerance: 20%; Voltage: 16V; Price: 1.75; Device Package: Radial, Can, 16mm
footprint CAP AL TH D16 L7.5 H33.5
pins: 1, 2

## ECA-1CM102
designator C?, comment 1000uF  (value not drawn)
CAP ALUM 1000UF 20% 16V RADIAL; Part Number: ECA-1CM102; Manufacturer: Panasonic Electronic Components; TemperatureRange: -40C ~ 85C; Type: Polar; Ripple Current: 680mA @ 120Hz; Value: 1000uF; PartId: 25196; Supplier 1: Digi-Key; Supplier Part Number 1: P5142-ND; ComponentLink1Description: Datasheet; ComponentLink1URL: http://industrial.panasonic.com/www-cgi/jvcr13pz.cgi?E+PZ+3+ABA0012+ECA1CM102+7+WW; ComponentLink2Description: Digi-Key Listing; ComponentLink2URL: https://www.digikey.com/product-detail/en/panasonic-electronic-components/ECA-1CM102/P5142-ND/245001; Tolerance: 20%; Voltage: 16V; Price: 0.5; Device Package: Radial, Can, 10mm
footprint CAP AL TH D10 L5 H17.5
pins: 1, 2

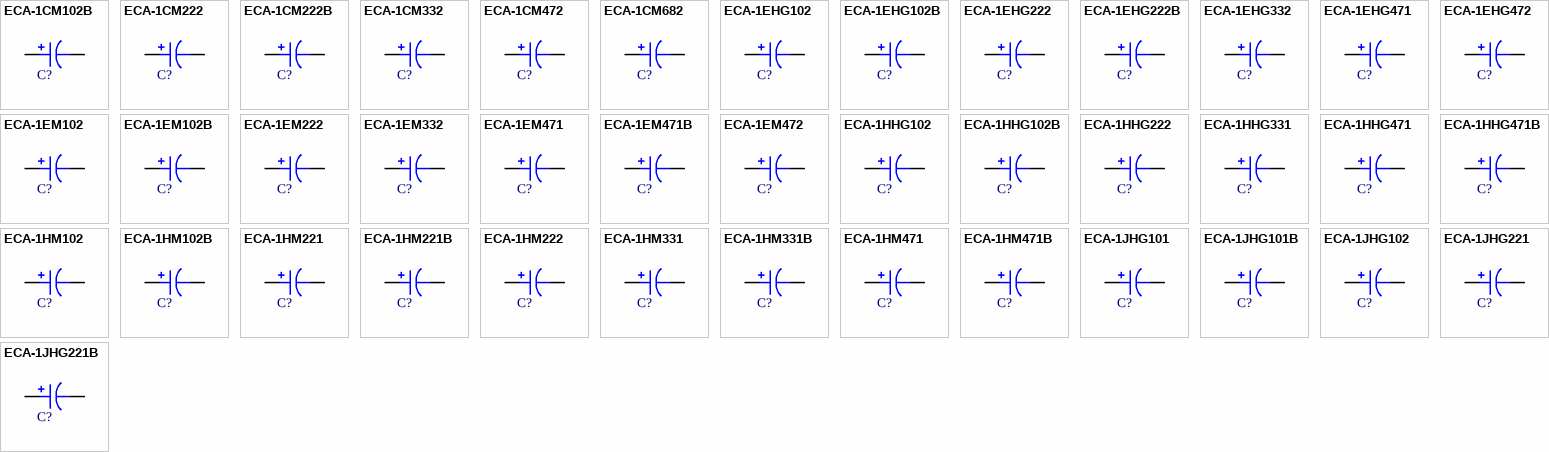
[diagram p20: symbols ECA-1CM102B to ECA-1JHG221B]

## ECA-1CM102B
designator C?, comment 1000uF  (value not drawn)
CAP ALUM 1000UF 20% 16V RADIAL; Part Number: ECA-1CM102B; Manufacturer: Panasonic Electronic Components; TemperatureRange: -40C ~ 85C; Type: Polar; Ripple Current: 680mA @ 120Hz; Value: 1000uF; PartId: 24995; Supplier 1: Digi-Key; Supplier Part Number 1: P10373TB-ND; ComponentLink1Description: Datasheet; ComponentLink1URL: http://industrial.panasonic.com/www-cgi/jvcr13pz.cgi?E+PZ+3+ABA0012+ECA1CM102B+7+WW; ComponentLink2Description: Digi-Key Listing; ComponentLink2URL: https://www.digikey.com/product-detail/en/panasonic-electronic-components/ECA-1CM102B/P10373TB-ND/268458; Tolerance: 20%; Voltage: 16V; Price: 0.142; Device Package: Radial, Can, 10mm
footprint CAP AL TH D10 L5 H17.5
pins: 1, 2

## ECA-1CM222
designator C?, comment 2200uF  (value not drawn)
CAP ALUM 2200UF 20% 16V RADIAL; Part Number: ECA-1CM222; Manufacturer: Panasonic Electronic Components; TemperatureRange: -40C ~ 85C; Type: Polar; Ripple Current: 1A @ 120Hz; Value: 2200uF; PartId: 23218; Supplier 1: Digi-Key; Supplier Part Number 1: P5143-ND; ComponentLink1Description: Datasheet; ComponentLink1URL: http://industrial.panasonic.com/www-cgi/jvcr13pz.cgi?E+PZ+3+ABA0012+ECA1CM222+7+WW; ComponentLink2Description: Digi-Key Listing; ComponentLink2URL: https://www.digikey.com/product-detail/en/panasonic-electronic-components/ECA-1CM222/P5143-ND/245002; Tolerance: 20%; Voltage: 16V; Price: 0.64; Device Package: Radial, Can, 12.5mm
footprint CAP AL TH D12.5 L5 H22
pins: 1, 2

## ECA-1CM222B
designator C?, comment 2200uF  (value not drawn)
CAP ALUM 2200UF 20% 16V RADIAL; Part Number: ECA-1CM222B; Manufacturer: Panasonic Electronic Components; TemperatureRange: -40C ~ 85C; Type: Polar; Ripple Current: 1A @ 120Hz; Value: 2200uF; PartId: 23143; Supplier 1: Digi-Key; Supplier Part Number 1: P10374TB-ND; ComponentLink1Description: Datasheet; ComponentLink1URL: http://industrial.panasonic.com/www-cgi/jvcr13pz.cgi?E+PZ+3+ABA0012+ECA1CM222B+7+WW; ComponentLink2Description: Digi-Key Listing; ComponentLink2URL: https://www.digikey.com/product-detail/en/panasonic-electronic-components/ECA-1CM222B/P10374TB-ND/268459; Tolerance: 20%; Voltage: 16V; Price: 0.2734; Device Package: Radial, Can, 12.5mm
footprint CAP AL TH D12.5 L5 H22
pins: 1, 2

## ECA-1CM332
designator C?, comment 3300uF  (value not drawn)
CAP ALUM 3300UF 20% 16V RADIAL; Part Number: ECA-1CM332; Manufacturer: Panasonic Electronic Components; TemperatureRange: -40C ~ 85C; Type: Polar; Ripple Current: 1.2A @ 120Hz; Value: 3300uF; PartId: 23866; Supplier 1: Digi-Key; Supplier Part Number 1: P5144-ND; ComponentLink1Description: Datasheet; ComponentLink1URL: http://industrial.panasonic.com/www-cgi/jvcr13pz.cgi?E+PZ+3+ABA0012+ECA1CM332+7+WW; ComponentLink2Description: Digi-Key Listing; ComponentLink2URL: https://www.digikey.com/product-detail/en/panasonic-electronic-components/ECA-1CM332/P5144-ND/245003; Tolerance: 20%; Voltage: 16V; Price: 0.78; Device Package: Radial, Can, 12.5mm
footprint CAP AL TH D12.5 L5 H27
pins: 1, 2

## ECA-1CM472
designator C?, comment 4700uF  (value not drawn)
CAP ALUM 4700UF 20% 16V RADIAL; Part Number: ECA-1CM472; Manufacturer: Panasonic Electronic Components; TemperatureRange: -40C ~ 85C; Type: Polar; Ripple Current: 1.36A @ 120Hz; Value: 4700uF; PartId: 26826; Supplier 1: Digi-Key; Supplier Part Number 1: P5145-ND; ComponentLink1Description: Datasheet; ComponentLink1URL: http://industrial.panasonic.com/www-cgi/jvcr13pz.cgi?E+PZ+3+ABA0012+ECA1CM472+7+WW; ComponentLink2Description: Digi-Key Listing; ComponentLink2URL: https://www.digikey.com/product-detail/en/panasonic-electronic-components/ECA-1CM472/P5145-ND/245004; Tolerance: 20%; Voltage: 16V; Price: 0.98; Device Package: Radial, Can, 16mm
footprint CAP AL TH D16 L7.5 H27
pins: 1, 2

## ECA-1CM682
designator C?, comment 6800uF  (value not drawn)
CAP ALUM 6800UF 20% 16V RADIAL; Part Number: ECA-1CM682; Manufacturer: Panasonic Electronic Components; TemperatureRange: -40C ~ 85C; Type: Polar; Ripple Current: 1.6A @ 120Hz; Value: 6800uF; PartId: 26994; Supplier 1: Digi-Key; Supplier Part Number 1: P5146-ND; ComponentLink1Description: Datasheet; ComponentLink1URL: http://industrial.panasonic.com/www-cgi/jvcr13pz.cgi?E+PZ+3+ABA0012+ECA1CM682+7+WW; ComponentLink2Description: Digi-Key Listing; ComponentLink2URL: https://www.digikey.com/product-detail/en/panasonic-electronic-components/ECA-1CM682/P5146-ND/245005; Tolerance: 20%; Voltage: 16V; Price: 1.31; Device Package: Radial, Can, 16mm
footprint CAP AL TH D16 L7.5 H33.5
pins: 1, 2

## ECA-1EHG102
designator C?, comment 1000uF  (value not drawn)
CAP ALUM 1000UF 20% 25V RADIAL; Part Number: ECA-1EHG102; Manufacturer: Panasonic Electronic Components; TemperatureRange: -55C ~ 105C; Type: Polar; Ripple Current: 680mA @ 120Hz; Value: 1000uF; PartId: 25874; Supplier 1: Digi-Key; Supplier Part Number 1: P5544-ND; ComponentLink1Description: Datasheet; ComponentLink1URL: http://industrial.panasonic.com/www-cgi/jvcr13pz.cgi?E+PZ+3+ABA0026+ECA1EHG102+7+WW; ComponentLink2Description: Digi-Key Listing; ComponentLink2URL: https://www.digikey.com/product-detail/en/panasonic-electronic-components/ECA-1EHG102/P5544-ND/245143; Tolerance: 20%; Voltage: 25V; Price: 0.64; Device Package: Radial, Can, 10mm
footprint CAP AL TH D10 L5 H22
pins: 1, 2

## ECA-1EHG102B
designator C?, comment 1000uF  (value not drawn)
CAP ALUM 1000UF 20% 25V RADIAL; Part Number: ECA-1EHG102B; Manufacturer: Panasonic Electronic Components; TemperatureRange: -55C ~ 105C; Type: Polar; Ripple Current: 680mA @ 120Hz; Value: 1000uF; PartId: 25795; Supplier 1: Digi-Key; Supplier Part Number 1: P19517TB-ND; ComponentLink1Description: Datasheet; ComponentLink1URL: http://industrial.panasonic.com/www-cgi/jvcr13pz.cgi?E+PZ+3+ABA0026+ECA1EHG102B+7+WW; ComponentLink2Description: Digi-Key Listing; ComponentLink2URL: https://www.digikey.com/product-detail/en/panasonic-electronic-components/ECA-1EHG102B/P19517TB-ND/2688664; Tolerance: 20%; Voltage: 25V; Price: 0.2734; Device Package: Radial, Can, 10mm
footprint CAP AL TH D10 L5 H22
pins: 1, 2

## ECA-1EHG222
designator C?, comment 2200uF  (value not drawn)
CAP ALUM 2200UF 20% 25V RADIAL; Part Number: ECA-1EHG222; Manufacturer: Panasonic Electronic Components; TemperatureRange: -55C ~ 105C; Type: Polar; Ripple Current: 1.09A @ 120Hz; Value: 2200uF; PartId: 23932; Supplier 1: Digi-Key; Supplier Part Number 1: P5545-ND; ComponentLink1Description: Datasheet; ComponentLink1URL: http://industrial.panasonic.com/www-cgi/jvcr13pz.cgi?E+PZ+3+ABA0026+ECA1EHG222+7+WW; ComponentLink2Description: Digi-Key Listing; ComponentLink2URL: https://www.digikey.com/product-detail/en/panasonic-electronic-components/ECA-1EHG222/P5545-ND/245144; Tolerance: 20%; Voltage: 25V; Price: 0.97; Device Package: Radial, Can, 12.5mm
footprint CAP AL TH D12.5 L5 H27
pins: 1, 2

## ECA-1EHG222B
designator C?, comment 2200uF  (value not drawn)
CAP ALUM 2200UF 20% 25V RADIAL; Part Number: ECA-1EHG222B; Manufacturer: Panasonic Electronic Components; TemperatureRange: -55C ~ 105C; Type: Polar; Ripple Current: 1.09A @ 120Hz; Value: 2200uF; PartId: 23818; Supplier 1: Digi-Key; Supplier Part Number 1: P19519TB-ND; ComponentLink1Description: Datasheet; ComponentLink1URL: http://industrial.panasonic.com/www-cgi/jvcr13pz.cgi?E+PZ+3+ABA0026+ECA1EHG222B+7+WW; ComponentLink2Description: Digi-Key Listing; ComponentLink2URL: https://www.digikey.com/product-detail/en/panasonic-electronic-components/ECA-1EHG222B/P19519TB-ND/2688667; Tolerance: 20%; Voltage: 25V; Price: 0.4279; Device Package: Radial, Can, 12.5mm
footprint CAP AL TH D12.5 L5 H27
pins: 1, 2

## ECA-1EHG332
designator C?, comment 3300uF  (value not drawn)
CAP ALUM 3300UF 20% 25V RADIAL; Part Number: ECA-1EHG332; Manufacturer: Panasonic Electronic Components; TemperatureRange: -55C ~ 105C; Type: Polar; Ripple Current: 1.4A @ 120Hz; Value: 3300uF; PartId: 26863; Supplier 1: Digi-Key; Supplier Part Number 1: P5546-ND; ComponentLink1Description: Datasheet; ComponentLink1URL: http://industrial.panasonic.com/www-cgi/jvcr13pz.cgi?E+PZ+3+ABA0026+ECA1EHG332+7+WW; ComponentLink2Description: Digi-Key Listing; ComponentLink2URL: https://www.digikey.com/product-detail/en/panasonic-electronic-components/ECA-1EHG332/P5546-ND/245145; Tolerance: 20%; Voltage: 25V; Price: 1.25; Device Package: Radial, Can, 16mm
footprint CAP AL TH D16 L7.5 H27
pins: 1, 2

## ECA-1EHG471
designator C?, comment 470uF  (value not drawn)
CAP ALUM 470UF 20% 25V RADIAL; Part Number: ECA-1EHG471; Manufacturer: Panasonic Electronic Components; TemperatureRange: -55C ~ 105C; Type: Polar; Ripple Current: 380mA @ 120Hz; Value: 470uF; PartId: 24918; Supplier 1: Digi-Key; Supplier Part Number 1: P5543-ND; ComponentLink1Description: Datasheet; ComponentLink1URL: http://industrial.panasonic.com/www-cgi/jvcr13pz.cgi?E+PZ+3+ABA0026+ECA1EHG471+7+WW; ComponentLink2Description: Digi-Key Listing; ComponentLink2URL: https://www.digikey.com/product-detail/en/panasonic-electronic-components/ECA-1EHG471/P5543-ND/245142; Tolerance: 20%; Voltage: 25V; Price: 0.5; Device Package: Radial, Can, 10mm
footprint CAP AL TH D10 L5 H14.5
pins: 1, 2

## ECA-1EHG472
designator C?, comment 4700uF  (value not drawn)
CAP ALUM 4700UF 20% 25V RADIAL; Part Number: ECA-1EHG472; Manufacturer: Panasonic Electronic Components; TemperatureRange: -55C ~ 105C; Type: Polar; Ripple Current: 1.75A @ 120Hz; Value: 4700uF; PartId: 27079; Supplier 1: Digi-Key; Supplier Part Number 1: P5547-ND; ComponentLink1Description: Datasheet; ComponentLink1URL: http://industrial.panasonic.com/www-cgi/jvcr13pz.cgi?E+PZ+3+ABA0026+ECA1EHG472+7+WW; ComponentLink2Description: Digi-Key Listing; ComponentLink2URL: https://www.digikey.com/product-detail/en/panasonic-electronic-components/ECA-1EHG472/P5547-ND/245146; Tolerance: 20%; Voltage: 25V; Price: 1.68; Device Package: Radial, Can, 16mm
footprint CAP AL TH D16 L7.5 H33.5
pins: 1, 2

## ECA-1EM102
designator C?, comment 1000uF  (value not drawn)
CAP ALUM 1000UF 20% 25V RADIAL; Part Number: ECA-1EM102; Manufacturer: Panasonic Electronic Components; TemperatureRange: -40C ~ 85C; Type: Polar; Ripple Current: 850mA @ 120Hz; Value: 1000uF; PartId: 25858; Supplier 1: Digi-Key; Supplier Part Number 1: P5156-ND; ComponentLink1Description: Datasheet; ComponentLink1URL: http://industrial.panasonic.com/www-cgi/jvcr13pz.cgi?E+PZ+3+ABA0012+ECA1EM102+7+WW; ComponentLink2Description: Digi-Key Listing; ComponentLink2URL: https://www.digikey.com/product-detail/en/panasonic-electronic-components/ECA-1EM102/P5156-ND/245015; Tolerance: 20%; Voltage: 25V; Price: 0.59; Device Package: Radial, Can, 10mm
footprint CAP AL TH D10 L5 H22
pins: 1, 2

## ECA-1EM102B
designator C?, comment 1000uF  (value not drawn)
CAP ALUM 1000UF 20% 25V RADIAL; Part Number: ECA-1EM102B; Manufacturer: Panasonic Electronic Components; TemperatureRange: -40C ~ 85C; Type: Polar; Ripple Current: 850mA @ 120Hz; Value: 1000uF; PartId: 25741; Supplier 1: Digi-Key; Supplier Part Number 1: P10380TB-ND; ComponentLink1Description: Datasheet; ComponentLink1URL: http://industrial.panasonic.com/www-cgi/jvcr13pz.cgi?E+PZ+3+ABA0012+ECA1EM102B+7+WW; ComponentLink2Description: Digi-Key Listing; ComponentLink2URL: https://www.digikey.com/product-detail/en/panasonic-electronic-components/ECA-1EM102B/P10380TB-ND/268465; Tolerance: 20%; Voltage: 25V; Price: 0.1942; Device Package: Radial, Can, 10mm
footprint CAP AL TH D10 L5 H22
pins: 1, 2

## ECA-1EM222
designator C?, comment 2200uF  (value not drawn)
CAP ALUM 2200UF 20% 25V RADIAL; Part Number: ECA-1EM222; Manufacturer: Panasonic Electronic Components; TemperatureRange: -40C ~ 85C; Type: Polar; Ripple Current: 1.2A @ 120Hz; Value: 2200uF; PartId: 23863; Supplier 1: Digi-Key; Supplier Part Number 1: P5157-ND; ComponentLink1Description: Datasheet; ComponentLink1URL: http://industrial.panasonic.com/www-cgi/jvcr13pz.cgi?E+PZ+3+ABA0012+ECA1EM222+7+WW; ComponentLink2Description: Digi-Key Listing; ComponentLink2URL: https://www.digikey.com/product-detail/en/panasonic-electronic-components/ECA-1EM222/P5157-ND/245016; Tolerance: 20%; Voltage: 25V; Price: 0.78; Device Package: Radial, Can, 12.5mm
footprint CAP AL TH D12.5 L5 H27
pins: 1, 2

## ECA-1EM332
designator C?, comment 3300uF  (value not drawn)
CAP ALUM 3300UF 20% 25V RADIAL; Part Number: ECA-1EM332; Manufacturer: Panasonic Electronic Components; TemperatureRange: -40C ~ 85C; Type: Polar; Ripple Current: 1.3A @ 120Hz; Value: 3300uF; PartId: 26830; Supplier 1: Digi-Key; Supplier Part Number 1: P5158-ND; ComponentLink1Description: Datasheet; ComponentLink1URL: http://industrial.panasonic.com/www-cgi/jvcr13pz.cgi?E+PZ+3+ABA0012+ECA1EM332+7+WW; ComponentLink2Description: Digi-Key Listing; ComponentLink2URL: https://www.digikey.com/product-detail/en/panasonic-electronic-components/ECA-1EM332/P5158-ND/245017; Tolerance: 20%; Voltage: 25V; Price: 0.98; Device Package: Radial, Can, 16mm
footprint CAP AL TH D16 L7.5 H27
pins: 1, 2

## ECA-1EM471
designator C?, comment 470uF  (value not drawn)
CAP ALUM 470UF 20% 25V RADIAL; Part Number: ECA-1EM471; Manufacturer: Panasonic Electronic Components; TemperatureRange: -40C ~ 85C; Type: Polar; Ripple Current: 480mA @ 120Hz; Value: 470uF; PartId: 24775; Supplier 1: Digi-Key; Supplier Part Number 1: P5155-ND; ComponentLink1Description: Datasheet; ComponentLink1URL: http://industrial.panasonic.com/www-cgi/jvcr13pz.cgi?E+PZ+3+ABA0012+ECA1EM471+7+WW; ComponentLink2Description: Digi-Key Listing; ComponentLink2URL: https://www.digikey.com/product-detail/en/panasonic-electronic-components/ECA-1EM471/P5155-ND/245014; Tolerance: 20%; Voltage: 25V; Price: 0.44; Device Package: Radial, Can, 10mm
footprint CAP AL TH D10 L5 H14.5
pins: 1, 2

## ECA-1EM471B
designator C?, comment 470uF  (value not drawn)
CAP ALUM 470UF 20% 25V RADIAL; Part Number: ECA-1EM471B; Manufacturer: Panasonic Electronic Components; TemperatureRange: -40C ~ 85C; Type: Polar; Ripple Current: 480mA @ 120Hz; Value: 470uF; PartId: 24521; Supplier 1: Digi-Key; Supplier Part Number 1: P10379TB-ND; ComponentLink1Description: Datasheet; ComponentLink1URL: http://industrial.panasonic.com/www-cgi/jvcr13pz.cgi?E+PZ+3+ABA0012+ECA1EM471B+7+WW; ComponentLink2Description: Digi-Key Listing; ComponentLink2URL: https://www.digikey.com/product-detail/en/panasonic-electronic-components/ECA-1EM471B/P10379TB-ND/268464; Tolerance: 20%; Voltage: 25V; Price: 0.1392; Device Package: Radial, Can, 10mm
footprint CAP AL TH D10 L5 H14.5
pins: 1, 2

## ECA-1EM472
designator C?, comment 4700uF  (value not drawn)
CAP ALUM 4700UF 20% 25V RADIAL; Part Number: ECA-1EM472; Manufacturer: Panasonic Electronic Components; TemperatureRange: -40C ~ 85C; Type: Polar; Ripple Current: 1.5A @ 120Hz; Value: 4700uF; PartId: 26998; Supplier 1: Digi-Key; Supplier Part Number 1: P5159-ND; ComponentLink1Description: Datasheet; ComponentLink1URL: http://industrial.panasonic.com/www-cgi/jvcr13pz.cgi?E+PZ+3+ABA0012+ECA1EM472+7+WW; ComponentLink2Description: Digi-Key Listing; ComponentLink2URL: https://www.digikey.com/product-detail/en/panasonic-electronic-components/ECA-1EM472/P5159-ND/245018; Tolerance: 20%; Voltage: 25V; Price: 1.34; Device Package: Radial, Can, 16mm
footprint CAP AL TH D16 L7.5 H33.5
pins: 1, 2